# EAGLE library part PMIC_RK801 (library !GPLIB_ACTIVE)
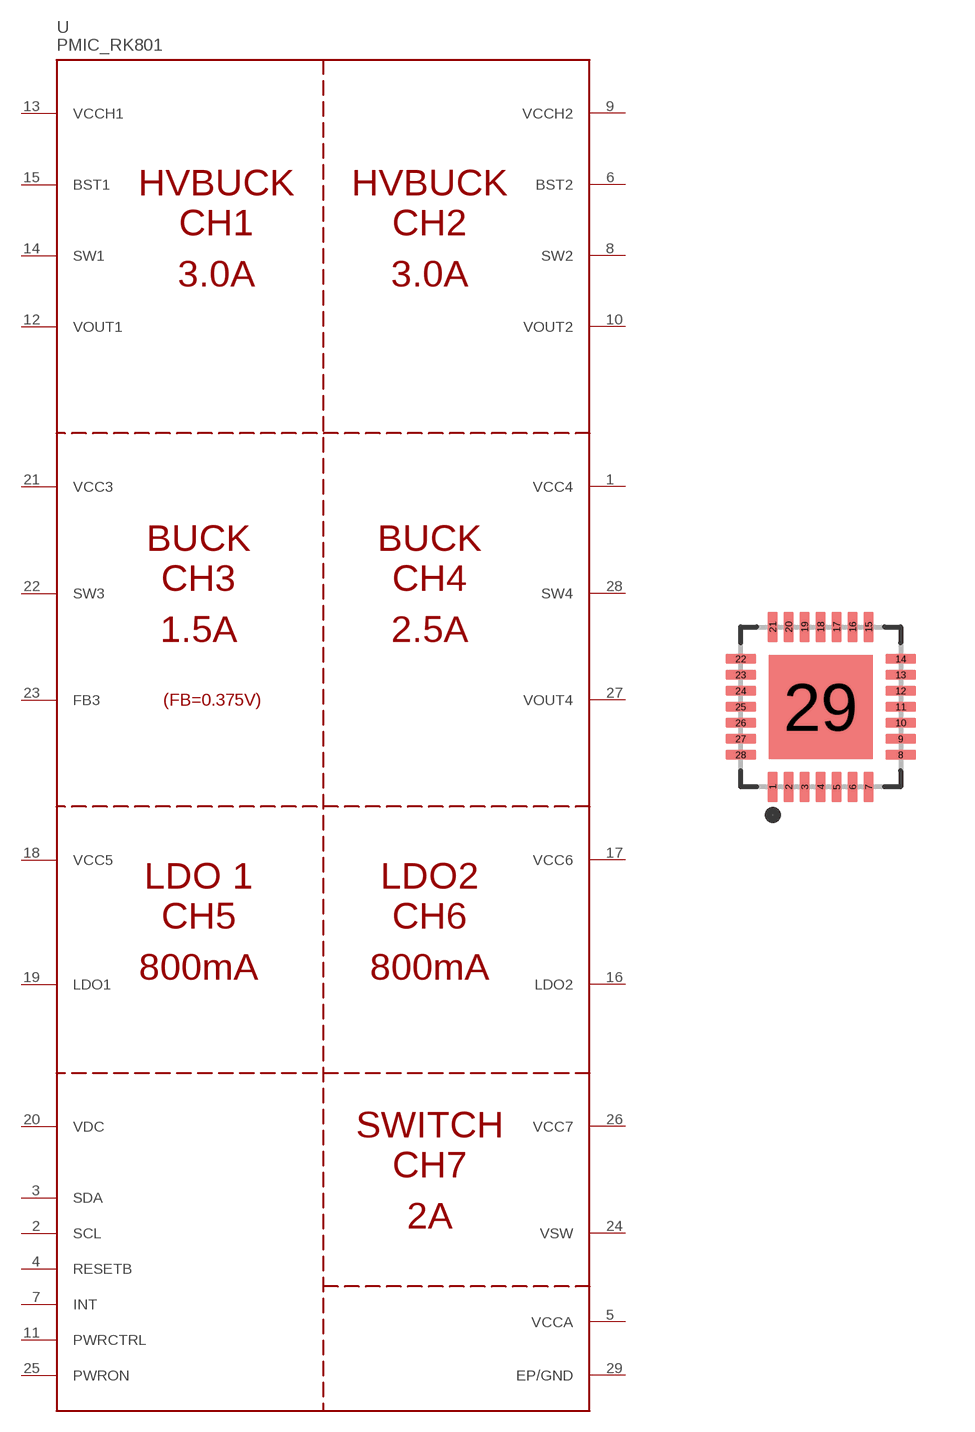
[diagram p104: symbol with the pads of QFN40P400X400X80-29N; footprint QFN40P400X400X80-29N]

Designator prefix U

## PMIC_RK801_RK801-2  [QFN40P400X400X80-29N]
1  VCC4  pwr
2  SCL  in
3  SDA
4  RESETB  out
5  VCCA  pwr
6  BST2
7  INT
8  SW2
9  VCCH2  pwr
10  VOUT2  in
11  PWRCTRL
12  VOUT1  in
13  VCCH1  pwr
14  SW1
15  BST1
16  LDO2  pwr
17  VCC6  pwr
18  VCC5  pwr
19  LDO1  pwr
20  VDC  pwr
21  VCC3  pwr
22  SW3
23  FB3  in
24  VSW  pwr
25  PWRON
26  VCC7  pwr
27  VOUT4  in
28  SW4
29  EP/GND  pwr

## Footprint QFN40P400X400X80-29N (pad centres in mm)
smd 0.25 x 0.77: 1 -1.2,-2; 2 -0.8,-2; 3 -0.4,-2; 4 0,-2; 5 0.4,-2; 6 0.8,-2; 7 1.2,-2; 15 1.2,2; 16 0.8,2; 17 0.4,2; 18 0,2; 19 -0.4,2; 20 -0.8,2; 21 -1.2,2
smd 0.77 x 0.25: 8 2,-1.2; 9 2,-0.8; 10 2,-0.4; 11 2,0; 12 2,0.4; 13 2,0.8; 14 2,1.2; 22 -2,1.2; 23 -2,0.8; 24 -2,0.4; 25 -2,0; 26 -2,-0.4; 27 -2,-0.8; 28 -2,-1.2
smd 2.6 x 2.6: 29 0,0